# Altium schematic symbol library RNMF14FAD10K0.SchLib: 2 symbols
Pins are listed as number, name and electrical type; pins without a type are passive.

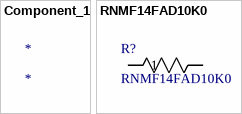
[diagram p0: symbols Component_1 to RNMF14FAD10K0]

## Component_1
designator *

## RNMF14FAD10K0
designator R?
No Description Available; Mfr_Name: Stackpole International; Copyright: Copyright (C) 2024 Ultra Librarian. All rights reserved.; Manufacturer_Part_Number: RNMF14FAD10K0; RefDes: RefDes; Type: DEV
footprint RES_RNMF14_STP
pins: 1, 2